# Altium integrated library LIB2022 - Crystals.IntLib: 6 symbols
Pins are listed as number, name and electrical type; pins without a type are passive.

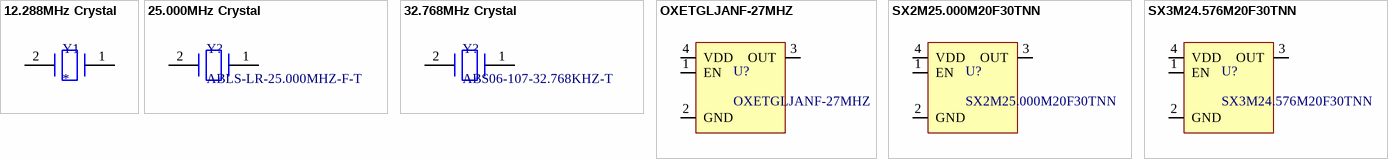
[diagram p0: symbols 12.288MHz Crystal to SX3M24.576M20F30TNN]

## 12.288MHz Crystal
designator Y1
footprint SMD5032
pins: 1, 2

## 25.000MHz Crystal
designator Y?, comment ABLS-LR-25.000MHZ-F-T
footprint HC49S
pins: 1, 2

## 32.768MHz Crystal
designator Y?, comment ABS06-107-32.768KHZ-T
footprint SMD2012
pins: 1, 2

## OXETGLJANF-27MHZ
designator U?
3.3V ±50ppm 27MHz SMD3225-4P Oscillators; JLCPart: C295526
footprint SMD3225
pins: 1 EN, 2 GND, 3 OUT, 4 VDD

## SX2M25.000M20F30TNN
designator U?
1.62V~3.63V ±20ppm CMOS 25MHz SMD2520-4P Oscillators; JLCPart: C2901601
footprint SMD2520
pins: 1 EN, 2 GND, 3 OUT, 4 VDD

## SX3M24.576M20F30TNN
designator U?
1.62V-3.63V ±20ppm 24.576MHz SMD3225-4P Oscillators; JLCPart: C2901574
footprint SMD3225
pins: 1 EN, 2 GND, 3 OUT, 4 VDD